# Altium footprint library PartsDatabaseV12.PcbLib: 97 footprints (part 4 of 7)
Each footprint in its own frame and in the unit in brackets; x right, y up, seen from the top. Pads: shape width x height; smd on the part's side, far side on the other; paste and mask are expansions set on the pad; w line width, h text height; cw(c..) or ccw(c..) is an arc to the next point about the centre after c.
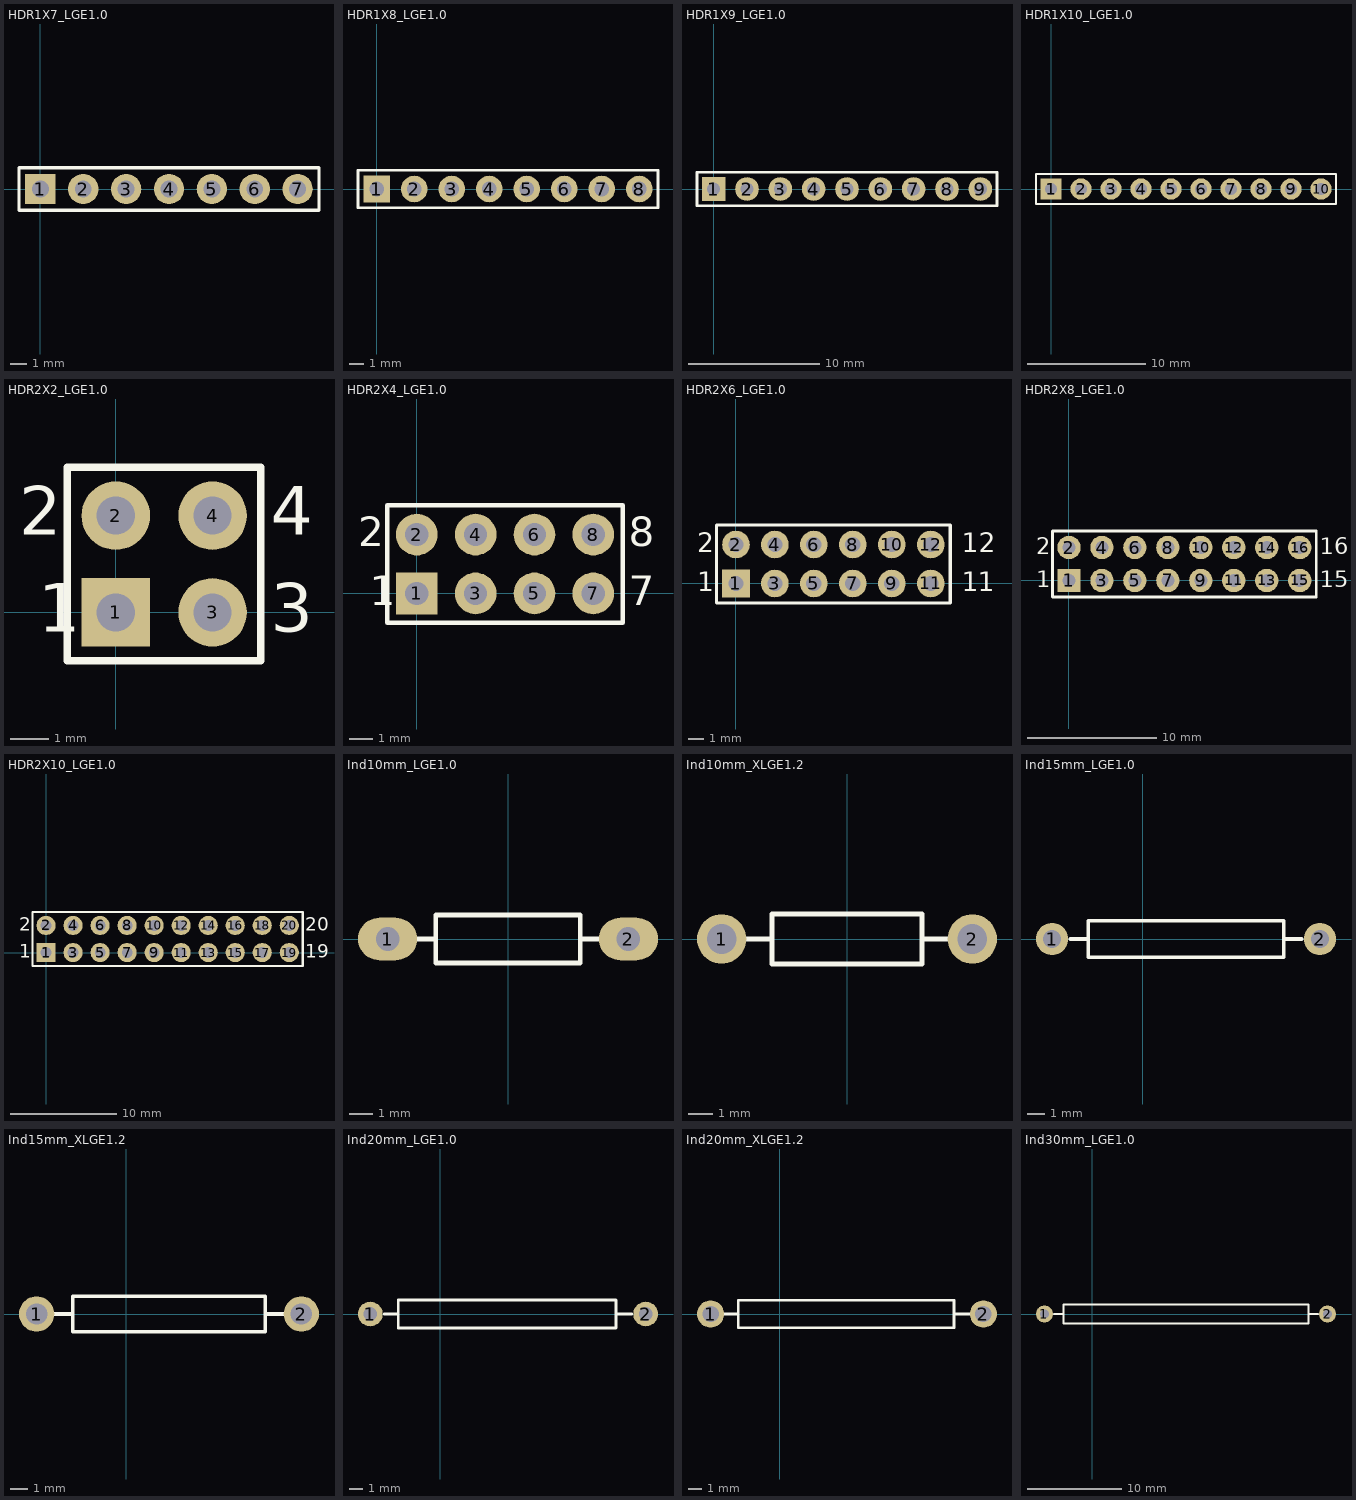
[diagram p3: the footprints below, top view; thin cyan lines are the x and y axes]

## HDR1X7_LGE1.0 [mm] "Connector; Header; 8 Position"
pads (7):
  rect 1.8x1.8 hole 1: 1(0,0)
  round 1.8 hole 1: 2(2.54,0) 3(5.08,0) 4(7.62,0) 5(10.16,0) 6(12.7,0) 7(15.24,0)
Top Overlay:
  lines w0.2: -1.27,-1.27 -1.27,1.27 16.51,1.27 16.51,-1.27 -1.27,-1.27

## HDR1X8_LGE1.0 [mm] "Connector; Header; 8 Position"
pads (8):
  rect 1.8x1.8 hole 1: 1(0,0)
  round 1.8 hole 1: 2(2.54,0) 3(5.08,0) 4(7.62,0) 5(10.16,0) 6(12.7,0) 7(15.24,0) 8(17.78,0)
Top Overlay:
  lines w0.2: -1.27,-1.27 19.05,-1.27 19.05,1.27 -1.27,1.27 -1.27,-1.27

## HDR1X9_LGE1.0 [mm] "Connector; Header; 10 Position"
pads (9):
  rect 1.8x1.8 hole 1: 1(0,0)
  round 1.8 hole 1: 2(2.54,0) 3(5.08,0) 4(7.62,0) 5(10.16,0) 6(12.7,0) 7(15.24,0) 8(17.78,0) 9(20.32,0)
Top Overlay:
  lines w0.2: -1.27,-1.27 21.59,-1.27 21.59,1.27 0.635,1.27 -1.27,1.27 -1.27,-1.27

## HDR1X10_LGE1.0 [mm] "Connector; Header; 10 Position"
pads (10):
  rect 1.8x1.8 hole 1: 1(0,0)
  round 1.8 hole 1: 2(2.54,0) 3(5.08,0) 4(7.62,0) 5(10.16,0) 6(12.7,0) 7(15.24,0) 8(17.78,0) 9(20.32,0) 10(22.86,0)
Top Overlay:
  lines w0.2: -1.27,-1.27 24.13,-1.27 24.13,1.27 0.635,1.27 -1.27,1.27 -1.27,-1.27

## HDR2X2_LGE1.0 [mm] "Connector; Header; 2x2 Position"
pads (4):
  rect 1.8x1.8 hole 1: 1(0,0)
  round 1.8 hole 1: 2(0,2.54) 3(2.54,0) 4(2.54,2.54)
Top Overlay:
  lines w0.2: -1.27,-1.27 -1.27,3.81 3.81,3.81 3.81,-1.27 -1.27,-1.27
  text "1" at -2.032,-0.508 h1.27
  text "2" at -2.54,2.032 h1.27
  text "4" at 4.064,2.032 h1.27
  text "3" at 4.064,-0.508 h1.27

## HDR2X4_LGE1.0 [mm] "Connector; Header; 4x2 Position"
pads (8):
  rect 1.8x1.8 hole 1: 1(0,0)
  round 1.8 hole 1: 2(0,2.54) 3(2.54,0) 4(2.54,2.54) 5(5.08,0) 6(5.08,2.54) 7(7.62,0) 8(7.62,2.54)
Top Overlay:
  lines w0.2: -1.27,-1.27 -1.27,3.81 8.89,3.81 8.89,-1.27 -1.27,-1.27
  text "8" at 9.144,2.032 h1.27
  text "7" at 9.144,-0.508 h1.27
  text "1" at -2.032,-0.508 h1.27
  text "2" at -2.54,2.032 h1.27

## HDR2X6_LGE1.0 [mm] "Connector; Header; 6x2 Position"
pads (12):
  rect 1.8x1.8 hole 1: 1(0,0)
  round 1.8 hole 1: 2(0,2.54) 3(2.54,0) 4(2.54,2.54) 5(5.08,0) 6(5.08,2.54) 7(7.62,0) 8(7.62,2.54) 9(10.16,0) 10(10.16,2.54) 11(12.7,0) 12(12.7,2.54)
Top Overlay:
  lines w0.2: -1.27,-1.27 13.97,-1.27 13.97,3.81 -1.27,3.81 -1.27,-1.27
  text "12" at 14.732,2.032 h1.27
  text "1" at 15.748,-0.508 h1.27
  text "1" at 14.732,-0.508 h1.27
  text "1" at -2.54,-0.508 h1.27
  text "2" at -2.54,2.032 h1.27

## HDR2X8_LGE1.0 [mm] "Connector; Header; 8x2 Position"
pads (16):
  rect 1.8x1.8 hole 1: 1(0,0)
  round 1.8 hole 1: 2(0,2.54) 3(2.54,0) 4(2.54,2.54) 5(5.08,0) 6(5.08,2.54) 7(7.62,0) 8(7.62,2.54) 9(10.16,0) 10(10.16,2.54) 11(12.7,0) 12(12.7,2.54) 13(15.24,0) 14(15.24,2.54) 15(17.78,0) 16(17.78,2.54)
Top Overlay:
  lines w0.2: -1.27,-1.27 -1.27,3.81 19.05,3.81 19.05,-1.27 -1.27,-1.27
  text "2" at -2.54,2.032 h1.27
  text "1" at -2.54,-0.508 h1.27
  text "15" at 19.304,-0.508 h1.27
  text "16" at 19.304,2.032 h1.27

## HDR2X10_LGE1.0 [mm] "Connector; Header; 10x2 Position"
pads (20):
  rect 1.8x1.8 hole 1: 1(0,0)
  round 1.8 hole 1: 2(0,2.54) 3(2.54,0) 4(2.54,2.54) 5(5.08,0) 6(5.08,2.54) 7(7.62,0) 8(7.62,2.54) 9(10.16,0) 10(10.16,2.54) 11(12.7,0) 12(12.7,2.54) 13(15.24,0) 14(15.24,2.54) 15(17.78,0) 16(17.78,2.54) 17(20.32,0) 18(20.32,2.54) 19(22.86,0) 20(22.86,2.54)
Top Overlay:
  lines w0.2: -1.27,-1.27 0.635,-1.27 24.13,-1.27 24.13,3.81 0.635,3.81 -1.27,3.81 -1.27,-1.27
  text "20" at 24.384,2.032 h1.27
  text "19" at 24.384,-0.508 h1.27
  text "1" at -2.54,-0.508 h1.27
  text "2" at -2.54,2.032 h1.27

## Ind10mm_LGE1.0 [mm] "Thru-Hole; 2 Leads"
pads (2):
  oval 2.5x1.8 hole 1: 1(-5.08,0) 2(5.08,0)
Top Overlay:
  lines w0.2: -4.064,0 -3.048,0 ; 3.048,0 4.064,0 ; -3.048,-1.016 -3.048,1.016 3.048,1.016 3.048,-1.016 -3.048,-1.016

## Ind10mm_XLGE1.2 [mm] "Thru-Hole; 2 Leads"
pads (2):
  round 2 hole 1.2: 1(-5.08,0) 2(5.08,0)
Top Overlay:
  lines w0.2: -4.064,0 -3.048,0 ; 3.048,0 4.064,0 ; -3.048,-1.016 -3.048,1.016 3.048,1.016 3.048,-1.016 -3.048,-1.016

## Ind15mm_LGE1.0 [mm] "Thru-Hole; 2 Leads"
pads (2):
  round 1.8 hole 1: 1(-5.08,0) 2(9.906,0)
Top Overlay:
  lines w0.2: -4.064,0 -3.048,0 ; 7.874,0 8.89,0 ; -3.048,-1.016 7.874,-1.016 7.874,1.016 -3.048,1.016 -3.048,-1.016

## Ind15mm_XLGE1.2 [mm] "Thru-Hole; 2 Leads"
pads (2):
  round 2 hole 1.2: 1(-5.08,0) 2(9.906,0)
Top Overlay:
  lines w0.2: -4.064,0 -3.048,0 ; 7.874,0 8.89,0 ; -3.048,-1.016 -3.048,1.016 7.874,1.016 7.874,-1.016 -3.048,-1.016

## Ind20mm_LGE1.0 [mm] "Thru-Hole; 2 Leads"
pads (2):
  round 1.8 hole 1: 1(-5.08,0) 2(14.986,0)
Top Overlay:
  lines w0.2: -4.064,0 -3.048,0 ; 12.954,0 13.97,0 ; -3.048,-1.016 -3.048,1.016 12.827,1.016 12.827,-1.016 -3.048,-1.016

## Ind20mm_XLGE1.2 [mm] "Thru-Hole; 2 Leads"
pads (2):
  round 2 hole 1.2: 1(-5.08,0) 2(14.986,0)
Top Overlay:
  lines w0.2: -4.064,0 -3.048,0 ; 12.954,0 13.97,0 ; -3.048,-1.016 12.827,-1.016 12.827,1.016 -3.048,1.016 -3.048,-1.016

## Ind30mm_LGE1.0 [mm] "Thru-Hole; 2 Leads"
pads (2):
  round 1.8 hole 1: 1(-5.08,0) 2(25.019,0)
Top Overlay:
  lines w0.2: -4.064,0 -3.048,0 ; 22.987,0 24.003,0 ; -3.048,-1.016 -3.048,1.016 22.987,1.016 22.987,-1.016 -3.048,-1.016